# EAGLE library part 623326235521 (library Eagle_BOARD-TO-BOARD_CONNECTORS (rev18b))
WR-PHD 1.27mm Dual SMT Pin Header H=1.80mm, 26 Pins=>Code : Con_BTB_PHD_1.27_2_623326235521 <http://katalog.we-online.de/media/thumbs2/eican/thb_Con_BTB_PHD_1.27_2_6233xx235521_pf2.jpg> Details see: http://katalog.we-online.de/en/em/623_3xx_235_521 Created 2014-06-04, Karrer Zheng 2014 (C) Würth Elektronik
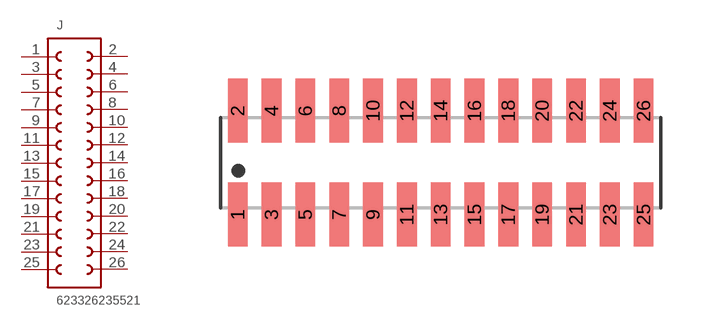
[diagram p286: symbol with the pads of 623326235521; footprint 623326235521]

Designator prefix J

## 623326235521  [623326235521]
1  1  pas
2  26  pas
3  2  pas
4  25  pas
5  3  pas
6  24  pas
7  4  pas
8  23  pas
9  5  pas
10  22  pas
11  6  pas
12  21  pas
13  7  pas
14  20  pas
15  8  pas
16  19  pas
17  9  pas
18  18  pas
19  10  pas
20  17  pas
21  11  pas
22  16  pas
23  12  pas
24  15  pas
25  13  pas
26  14  pas

## Footprint 623326235521 (pad centres in mm)
WR-PHD 1.27mm Dual SMT Pin Header H=1.80mm, 26 Pins
smd 0.74 x 2.4: 1 -7.62,-1.95; 2 -7.62,1.95; 3 -6.35,-1.95; 4 -6.35,1.95; 5 -5.08,-1.95; 6 -5.08,1.95; 7 -3.81,-1.95; 8 -3.81,1.95; 9 -2.54,-1.95; 10 -2.54,1.95; 11 -1.27,-1.95; 12 -1.27,1.95; 13 0,-1.95; 14 0,1.95; 15 1.27,-1.95; 16 1.27,1.95; 17 2.54,-1.95; 18 2.54,1.95; 19 3.81,-1.95; 20 3.81,1.95; 21 5.08,-1.95; 22 5.08,1.95; 23 6.35,-1.95; 24 6.35,1.95; 25 7.62,-1.95; 26 7.62,1.95